# Altium schematic symbol library 2226051_이강민_STM32H743.SchLib: 12 symbols
Pins are listed as number, name and electrical type; pins without a type are passive.

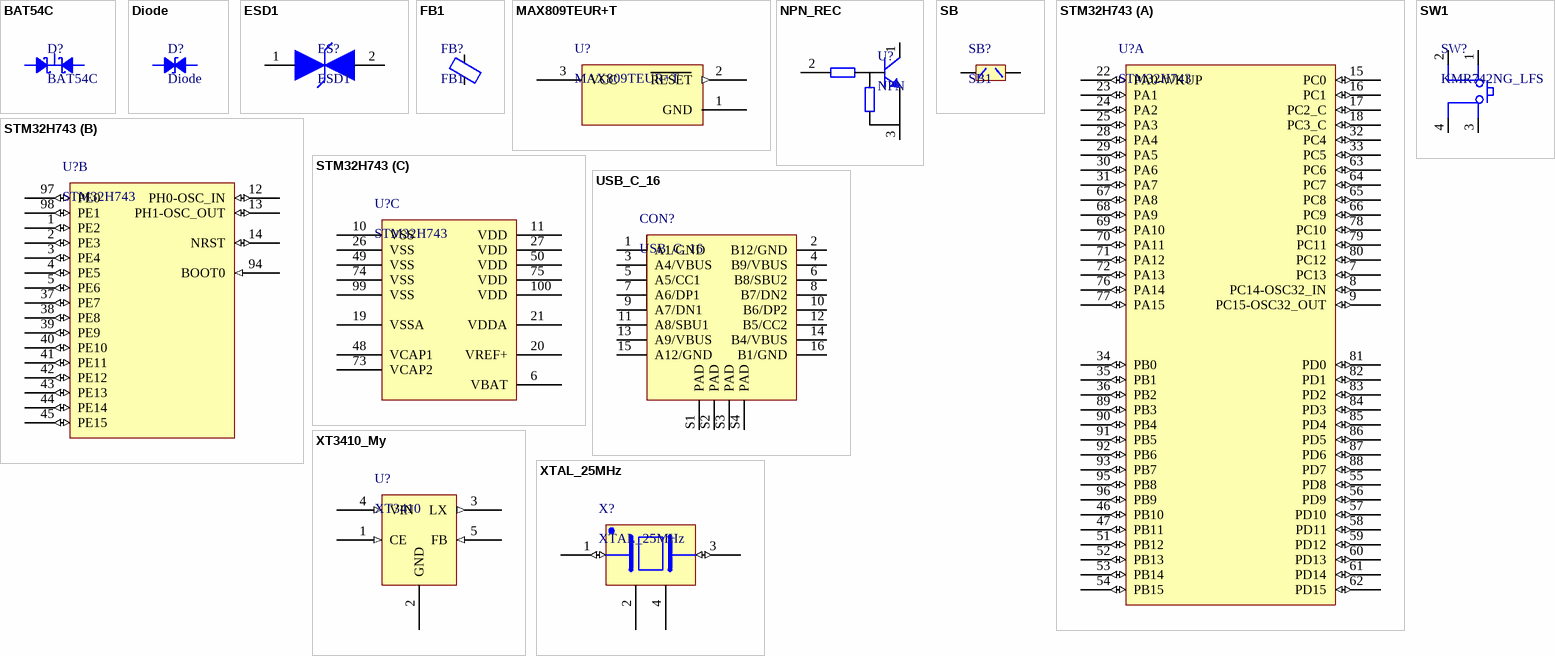
[diagram p0: symbols BAT54C to XTAL_25MHz]

## BAT54C
designator D?
footprint SOT23_3L (SOT23, 3-Leads, Body 2.90x2.45mm, Pitch 0.95mm, IPC Medium Density)
pins: 1, 2, 3

## Diode
designator D?
footprint SOD-323 (SODFL, 2-Leads, Body 1.25x2.50mm, IPC Medium Density)
pins: 1, 2

## ESD1
designator ES?
footprint MKESD0402MS05
pins: 1, 2

## FB1
designator FB?
pins: 1, 2

## MAX809TEUR+T
designator U?
footprint SOT23_3L (SOT23, 3-Leads, Body 2.90x2.45mm, Pitch 0.95mm, IPC Medium Density)
pins: 1 GND, 2 RESET (out), 3 VCC

## NPN_REC
designator U?, comment NPN
footprint SOT23_3L (SOT23, 3-Leads, Body 2.90x2.45mm, Pitch 0.95mm, IPC Medium Density)
pins: 1 I, 2, 3

## SB
designator SB?, comment SB1
footprint SB
pins: 1, 2

## STM32H743
designator U?
footprint LQFP100Pin (TSQFP, 100-Leads, Body 15.00x15.00mm, Pitch 0.50mm, IPC Medium Density)
part A pins: 7 PC13 (io), 8 PC14-OSC32_IN (io), 9 PC15-OSC32_OUT (io), 15 PC0 (io), 16 PC1 (io), 17 PC2_C (io), 18 PC3_C (io), 22 PA0-WKUP (io), 23 PA1 (io), 24 PA2 (io), 25 PA3 (io), 28 PA4 (io), 29 PA5 (io), 30 PA6 (io), 31 PA7 (io), 32 PC4 (io), 33 PC5 (io), 34 PB0 (io), 35 PB1 (io), 36 PB2 (io), 46 PB10 (io), 47 PB11 (io), 51 PB12 (io), 52 PB13 (io), 53 PB14 (io), 54 PB15 (io), 55 PD8 (io), 56 PD9 (io), 57 PD10 (io), 58 PD11 (io), 59 PD12 (io), 60 PD13 (io), 61 PD14 (io), 62 PD15 (io), 63 PC6 (io), 64 PC7 (io), 65 PC8 (io), 66 PC9 (io), 67 PA8 (io), 68 PA9 (io), 69 PA10 (io), 70 PA11 (io), 71 PA12 (io), 72 PA13 (io), 76 PA14 (io), 77 PA15 (io), 78 PC10 (io), 79 PC11 (io), 80 PC12 (io), 81 PD0 (io), 82 PD1 (io), 83 PD2 (io), 84 PD3 (io), 85 PD4 (io), 86 PD5 (io), 87 PD6 (io), 88 PD7 (io), 89 PB3 (io), 90 PB4 (io), 91 PB5 (io), 92 PB6 (io), 93 PB7 (io), 95 PB8 (io), 96 PB9 (io)
part B pins: 1 PE2 (io), 2 PE3 (io), 3 PE4 (io), 4 PE5 (io), 5 PE6 (io), 12 PH0-OSC_IN (io), 13 PH1-OSC_OUT (io), 14 NRST (io), 37 PE7 (io), 38 PE8 (io), 39 PE9 (io), 40 PE10 (io), 41 PE11 (io), 42 PE12 (io), 43 PE13 (io), 44 PE14 (io), 45 PE15 (io), 94 BOOT0 (in), 97 PE0 (io), 98 PE1 (io)
part C pins: 6 VBAT, 10 VSS, 11 VDD, 19 VSSA, 20 VREF+, 21 VDDA, 26 VSS, 27 VDD, 48 VCAP1, 49 VSS, 50 VDD, 73 VCAP2, 74 VSS, 75 VDD, 99 VSS, 100 VDD

## SW1
designator SW?, comment KMR742NG_LFS
footprint TACT_switch (KMR742NG LFS)
pins: 1, 2, 3, 4

## USB_C_16
designator CON?
footprint USB_C_16PIN_DIP (Footprint not found)
pins: 1 A1/GND, 2 B12/GND, 3 A4/VBUS, 4 B9/VBUS, 5 A5/CC1, 6 B8/SBU2, 7 A6/DP1, 8 B7/DN2, 9 A7/DN1, 10 B6/DP2, 11 A8/SBU1, 12 B5/CC2, 13 A9/VBUS, 14 B4/VBUS, 15 A12/GND, 16 B1/GND, S1 PAD, S2 PAD, S3 PAD, S4 PAD

## XT3410_My
designator U?, comment XT3410
footprint SOT23_5L (SOT23, 5-Leads, Body 2.91x2.45mm, Pitch 0.95mm, IPC Medium Density)
pins: 1 CE (in), 2 GND, 3 LX (out), 4 VIN (in), 5 FB (in)

## XTAL_25MHz
designator X?
footprint XTAL_25MHz
pins: 1 (io), 2, 3 (io), 4